# Altium footprint library MOLEX SD-73100-0115.PCBLIB: 1 footprints
Each footprint in its own frame and in the unit in brackets; x right, y up, seen from the top. Pads: shape width x height; smd on the part's side, far side on the other; paste and mask are expansions set on the pad; w line width, h text height; cw(c..) or ccw(c..) is an arc to the next point about the centre after c.
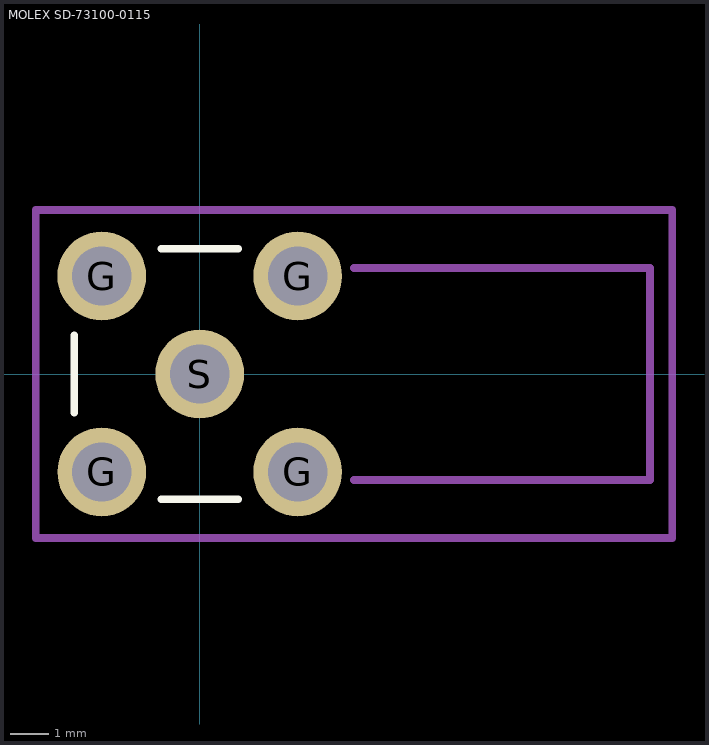
[diagram p0: the footprint, top view; thin cyan lines are the x and y axes]

## MOLEX SD-73100-0115 [mm]
pads (5):
  round 2.302 hole 1.54: G(-2.54,-2.54) G(2.54,-2.54)
  round 2.304 hole 1.54: G(-2.54,2.54) G(2.54,2.54) S(0,0)
Top Overlay:
  lines w0.2: -3.25,-1 -3.25,1 ; -1,-3.25 1,-3.25 ; -1,3.25 1,3.25
Mechanical 1:
  lines w0.2: 4,-2.75 11.675,-2.75 11.675,2.75 4,2.75
Mechanical 15:
  lines w0.2: -1,0 1,0 ; 0,-1 0,1 ; -4.25,-4.25 -4.25,4.25 12.25,4.25 12.25,-4.25 -4.25,-4.25
3D body "MOLEX SD-73100-0115.stp": height 9.67, standoff -3.83, extent -3.125,-3.175 11.675,3.175